# Altium footprint library Connector.PcbLib: 170 footprints (part 2 of 11)
Each footprint in its own frame and in the unit in brackets; x right, y up, seen from the top. Pads: shape width x height; smd on the part's side, far side on the other; paste and mask are expansions set on the pad; w line width, h text height; cw(c..) or ccw(c..) is an arc to the next point about the centre after c.
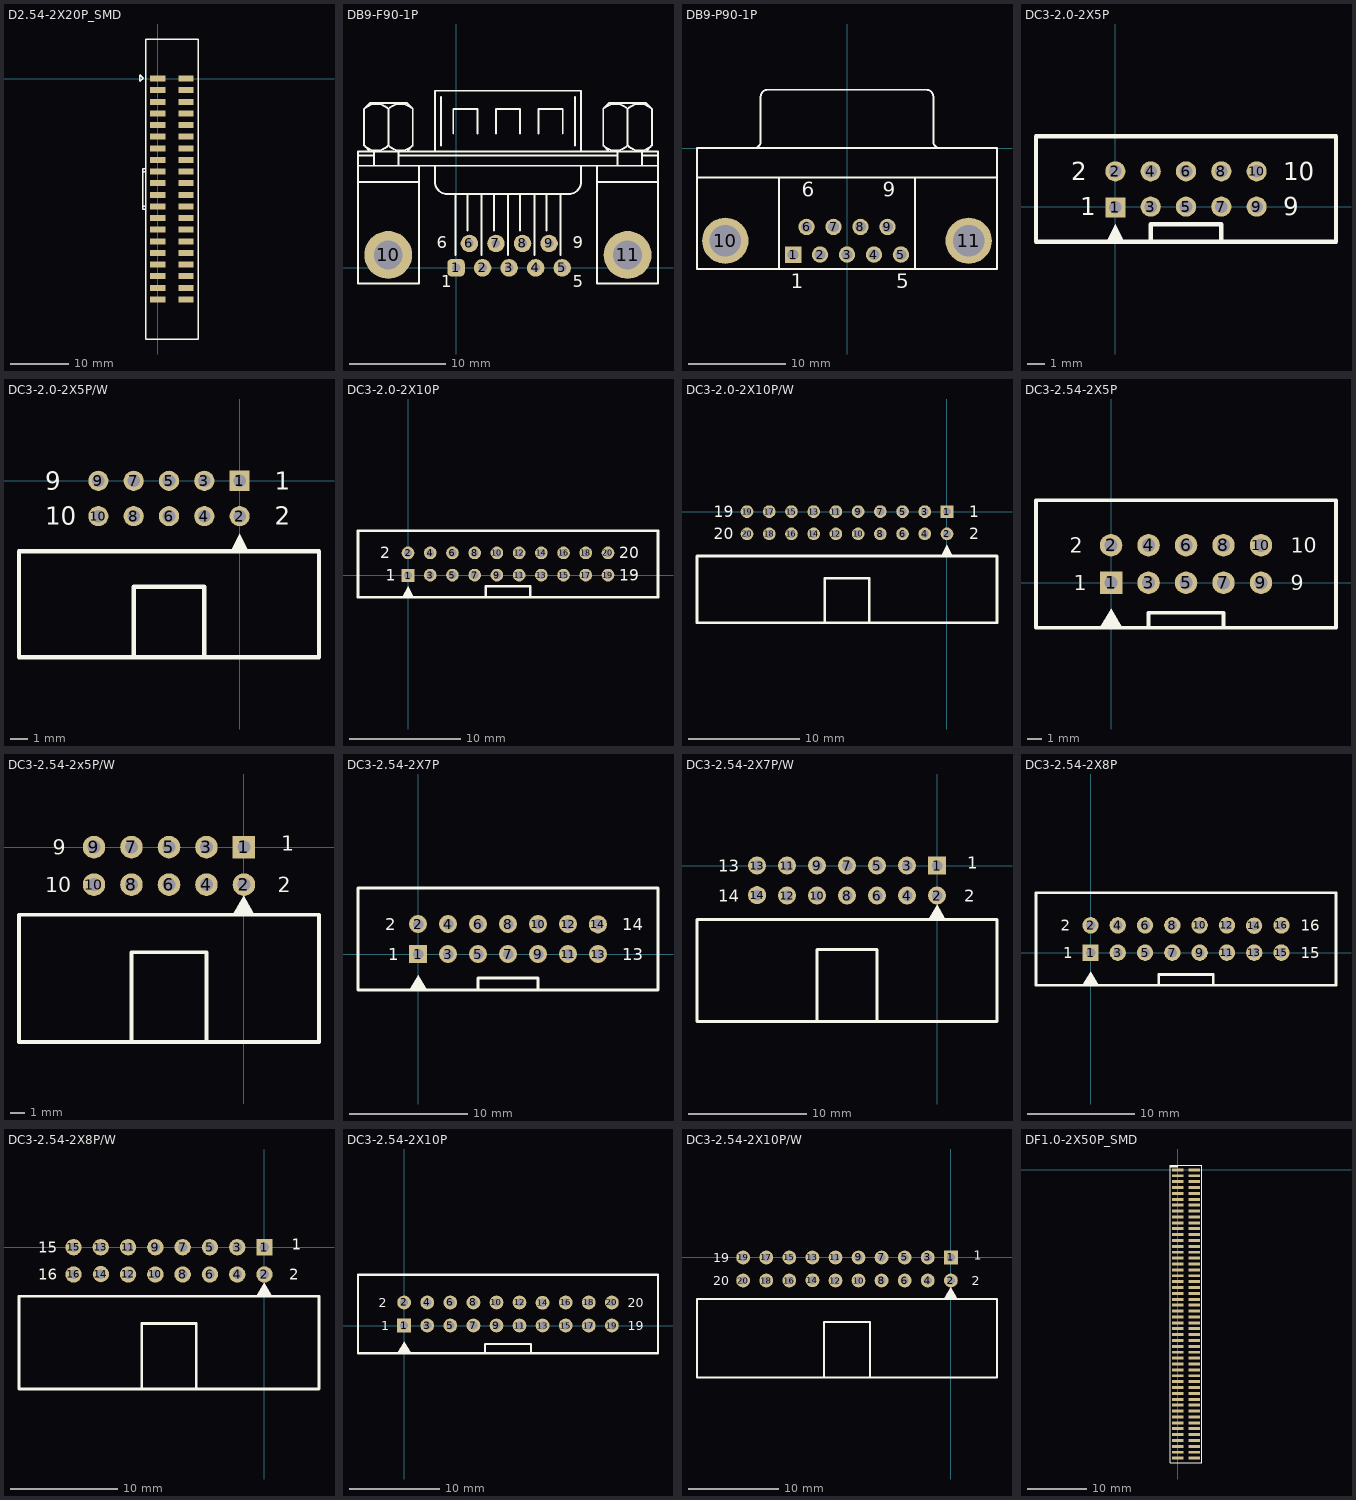
[diagram p1: the footprints below, top view; thin cyan lines are the x and y axes]

## D2.54-2X20P_SMD [mm]
pads (40):
  rect 2.65x1.02 smd: 1(0,0) 2(4.85,0) 3(0,-2) 4(4.85,-2) 5(0,-4) 6(4.85,-4) 7(0,-6) 8(4.85,-6) 9(0,-8) 10(4.85,-8) 11(0,-10) 12(4.85,-10) 13(0,-12) 14(4.85,-12) 15(0,-14) 16(4.85,-14) 17(0,-16) 18(4.85,-16) 19(0,-18) 20(4.85,-18) 21(0,-20) 22(4.85,-20) 23(0,-22) 24(4.85,-22) 25(0,-24) 26(4.85,-24) 27(0,-26) 28(4.85,-26) 29(0,-28) 30(4.85,-28) 31(0,-30) 32(4.85,-30) 33(0,-32) 34(4.85,-32) 35(0,-34) 36(4.85,-34) 37(0,-36) 38(4.85,-36) 39(0,-38) 40(4.85,-38)
Top Overlay:
  lines w0.254: -3.087,0.583 -3.087,-0.509 -2.528,0.05 -3.087,0.609 ; -2.106,-15.5 -2.575,-15.5 -2.575,-16 ; -2.08,-22.5 -2.575,-22.5 -2.575,-22 ; -2.078,-22 -2.575,-22 ; -2.078,-16 -2.575,-16 ; -2.575,-22 -2.575,-16 ; -2.075,-44.8 6.925,-44.8 6.925,6.8 -2.075,6.8 -2.075,-44.8
3D body: height 6, standoff 0, extent 4.238,-0.4 5.035,0.399
3D body: height 6, standoff 0, extent 4.213,-2.406 5.01,-1.608
3D body: height 6, standoff 0, extent 4.264,-4.413 5.06,-3.615
3D body: height 6, standoff 0, extent 4.264,-6.394 5.06,-5.596
3D body: height 6, standoff 0, extent 4.238,-8.426 5.035,-7.628
3D body: height 6, standoff 0, extent 4.264,-10.407 5.06,-9.609
3D body: height 6, standoff 0, extent 4.238,-12.414 5.035,-11.616
3D body: height 6, standoff 0, extent 4.238,-14.421 5.035,-13.622
3D body: height 6, standoff 0, extent 4.238,-16.427 5.035,-15.629
3D body: height 6, standoff 0, extent 4.238,-18.408 5.035,-17.61
3D body: height 6, standoff 0, extent 4.264,-20.415 5.06,-19.617
3D body: height 6, standoff 0, extent 4.238,-22.396 5.035,-21.598
3D body: height 6, standoff 0, extent 4.238,-24.403 5.035,-23.604
3D body: height 6, standoff 0, extent 4.238,-26.435 5.035,-25.636
3D body: height 6, standoff 0, extent 4.264,-28.416 5.06,-27.618
3D body: height 6, standoff 0, extent 4.238,-30.423 5.035,-29.624
3D body: height 6, standoff 0, extent 4.238,-32.404 5.035,-31.605
3D body: height 6, standoff 0, extent 4.238,-34.41 5.035,-33.612
3D body: height 6, standoff 0, extent 4.238,-36.417 5.035,-35.619
3D body: height 6, standoff 0, extent 4.238,-38.424 5.035,-37.625
3D body: height 6, standoff 0, extent -0.131,-38.398 0.666,-37.6
3D body: height 6, standoff 0, extent -0.131,-36.392 0.666,-35.593
3D body: height 6, standoff 0, extent -0.131,-34.385 0.666,-33.587
3D body: height 6, standoff 0, extent -0.131,-32.379 0.666,-31.58
3D body: height 6, standoff 0, extent -0.131,-30.397 0.666,-29.599
3D body: height 6, standoff 0, extent -0.105,-28.391 0.691,-27.592
3D body: height 6, standoff 0, extent -0.131,-26.41 0.666,-25.611
3D body: height 6, standoff 0, extent -0.131,-24.378 0.666,-23.579
3D body: height 6, standoff 0, extent -0.131,-22.371 0.666,-21.572
3D body: height 6, standoff 0, extent -0.105,-20.39 0.691,-19.591
3D body: height 6, standoff 0, extent -0.131,-18.383 0.666,-17.585
3D body: height 6, standoff 0, extent -0.131,-16.402 0.666,-15.603
3D body: height 6, standoff 0, extent -0.131,-14.395 0.666,-13.597
3D body: height 6, standoff 0, extent -0.131,-12.389 0.666,-11.59
3D body: height 6, standoff 0, extent -0.105,-10.382 0.691,-9.584
3D body: height 6, standoff 0, extent -0.131,-8.401 0.666,-7.602
3D body: height 6, standoff 0, extent -0.105,-6.369 0.691,-5.57
3D body: height 6, standoff 0, extent -0.105,-4.388 0.691,-3.589
3D body: height 6, standoff 0, extent -0.156,-2.381 0.641,-1.583
3D body: height 6, standoff 0, extent -0.131,-0.375 0.666,0.424
3D body: height 6, standoff 0, extent -2.706,-22.505 -1.995,-15.495
3D body: height 7, standoff 0, extent -2.706,-21.997 -1.995,-16.003
3D body: height 1, standoff 0, extent -1.995,-44.806 6.845,6.806
3D body: height 6, standoff 0, extent -1.995,-44.806 6.845,-44.222
3D body: height 6, standoff 0, extent -1.995,6.222 6.845,6.806
3D body: height 6, standoff 0, extent 6.286,-44.806 6.845,6.806
3D body: height 6, standoff 0, extent -1.995,-44.806 -1.436,6.806

## DB9-F90-1P [mil] "DSUB-DB9Lĸ"
pads (11):
  rrect50% 72x72 hole 35: 1(0,0)
  round 72 hole 35: 2(109.17,0) 3(218.33,0) 4(327.5,0) 5(436.67,0) 6(55,100) 7(164.17,100) 8(273.33,100) 9(382.5,100)
  round 196.67 hole 118.33: 10(-278.83,53) 11(705.33,53)
Top Overlay:
  lines w8: -403,353 -153,353 ; -403,419.67 830.33,419.67 ; -403,461.33 -336.33,461.33 ; -378.09,502.91 ccw(c-328,553) -277.91,502.91 ; -378.09,653.09 cw(c-328,603) -277.91,653.09 ; -353,478 -378,503 -378,653 -353,678 -203,678 -178,653 -178,503 -203,478 ; -336.33,419.67 -336.33,478 ; -278.09,502.91 ccw(c-228,553) -177.91,502.91 ; -278.09,653.09 cw(c-228,603) -177.91,653.09 ; -278,503 -278,653 ; -236.33,419.67 -236.33,478 ; -236.33,461.33 663.67,461.33 ; -153,419.67 -153,-63.67 -403,-63.67 -403,478 830.33,478 830.33,-63.67 580.33,-63.67 580.33,419.67 ; -86.33,419.67 -86.33,353 ccw(c-36.33,353) -36.33,303 463.67,303 ccw(c463.67,353) 513.67,353 513.67,419.67 ; -86.33,478 -86.33,728 513.67,728 513.67,478 ; -61.33,503 -61.33,703 ; -11.33,553 -11.33,653 88.67,653 88.67,553 ; -3,53 -3,303 ; 47,153 47,303 ; 105.33,53 105.33,303 ; 155.33,153 155.33,303 ; 163.67,553 163.67,653 263.67,653 263.67,553 ; 213.67,53 213.67,303 ; 263.67,153 263.67,303 ; 322,53 322,303 ; 338.67,553 338.67,653 438.67,653 438.67,553 ; 372,153 372,303 ; 430.33,53 430.33,303 ; 488.67,503 488.67,703 ; 580.33,353 830.33,353 ; 605.25,502.91 ccw(c655.33,553) 705.42,502.91 ; 605.25,653.09 cw(c655.33,603) 705.42,653.09 ; 630.33,478 605.33,503 605.33,653 630.33,678 780.33,678 805.33,653 805.33,503 780.33,478 ; 663.67,419.67 663.67,478 ; 705.25,502.91 ccw(c755.33,553) 805.42,502.91 ; 705.25,653.09 cw(c755.33,603) 805.42,653.09 ; 705.33,503 705.33,653 ; 763.67,419.67 763.67,478 ; 763.67,461.33 830.33,461.33
  text "6" at -80,80 h50
  text "5" at 480,-80 h50
  text "9" at 480,80 h50
  text "1" at -60,-80 h50

## DB9-P90-1P [mm] "DSUB-DB9L公"
pads (11):
  rect 1.69x1.69 hole 1.09: 1(-5.54,-10.92)
  round 1.69 hole 1.09: 2(-2.77,-10.92) 3(0,-10.92) 4(2.77,-10.92) 5(5.54,-10.92) 6(-4.155,-8.08) 7(-1.385,-8.08) 8(1.385,-8.08) 9(4.155,-8.08)
  round 4.76 hole 3.26: 10(-12.495,-9.5) 11(12.495,-9.5)
Top Overlay:
  lines w0.2: -15.4,-3 15.4,-3 ; -9.56,0.005 ccw(c-9.56,0.7) -8.865,0.7 -8.865,5.3 ; -8.86,5.305 cw(c-8.165,5.305) -8.165,6 8.165,6 cw(c8.165,5.305) 8.86,5.305 ; -7,-12.4 -7,-3 ; 7,-12.4 7,-3 ; 8.865,5.3 8.865,0.7 ccw(c9.56,0.7) 9.56,0.005 ; -15.4,-12.4 -15.4,0 15.4,0 15.4,-12.4 -15.4,-12.4
  text "1" at -5.79,-14.375 h1.5
  text "5" at 5.04,-14.375 h1.5
  text "9" at 3.655,-4.975 h1.5
  text "6" at -4.655,-4.975 h1.5

## DC3-2.0-2X5P [mil] "DC3-2.0-2X5P直脚"
pads (10):
  rect 45x45 hole 28: 1(0,-1.57)
  round 45 hole 28: 2(0,78.74) 3(78.74,0) 4(78.74,78.74) 5(157.48,0) 6(157.48,78.74) 7(236.22,0) 8(236.22,78.74) 9(314.96,0) 10(314.96,78.74)
Top Overlay:
  region: -19.68,-78.74 19.68,-78.74 0,-39.37
  lines w10: 78.74,-78.74 78.74,-39.37 236.22,-39.37 236.22,-78.74 ; -177.17,-78.74 -177.17,157.48 492.13,157.48 492.13,-78.74 -177.17,-78.74
  text "2" at -98.43,59.06 h40
  text "9" at 374.02,-19.68 h40
  text "1" at -78.74,-19.68 h40
  text "10" at 374.02,59.06 h40

## DC3-2.0-2X5P/W [mil] "DC3-2.0-2x5P弯脚"
pads (10):
  rect 45x45 hole 28: 1(0,0)
  round 45 hole 28: 2(0,-78.74) 3(-78.74,0) 4(-78.74,-78.74) 5(-157.48,0) 6(-157.48,-78.74) 7(-236.22,0) 8(-236.22,-78.74) 9(-314.96,0) 10(-314.96,-78.74)
Top Overlay:
  region: -19.68,-157.48 19.68,-157.48 0,-118.11
  lines w10: -236.22,-393.7 -236.22,-236.22 -78.74,-236.22 -78.74,-393.7 ; -492.13,-393.7 -492.13,-157.48 177.17,-157.48 177.17,-393.7 -492.13,-393.7
  text "9" at -433.07,-19.68 h40
  text "2" at 78.74,-98.43 h40
  text "1" at 78.74,-19.68 h40
  text "10" at -433.07,-98.43 h40

## DC3-2.0-2X10P [mil] "DC3-2.0-2x10P直脚"
pads (20):
  rect 45x45 hole 28: 1(0,-1.57)
  round 45 hole 28: 2(0,78.74) 3(78.74,0) 4(78.74,78.74) 5(157.48,0) 6(157.48,78.74) 7(236.22,0) 8(236.22,78.74) 9(314.96,0) 10(314.96,78.74) 11(393.7,0) 12(393.7,78.74) 13(472.44,0) 14(472.44,78.74) 15(551.18,0) 16(551.18,78.74) 17(629.92,0) 18(629.92,78.74) 19(708.66,0) 20(708.66,78.74)
Top Overlay:
  region: -19.68,-78.74 19.68,-78.74 0,-39.37
  lines w10: 275.59,-78.74 275.59,-39.37 433.07,-39.37 433.07,-78.74 ; -177.17,-78.74 -177.17,157.48 885.83,157.48 885.83,-78.74 -177.17,-78.74
  text "2" at -98.43,59.06 h40
  text "19" at 748.03,-19.68 h40
  text "1" at -78.74,-19.68 h40
  text "20" at 748.03,59.06 h40

## DC3-2.0-2X10P/W [mil] "DC3-2.0-2x10P弯脚"
pads (20):
  rect 45x45 hole 28: 1(0,0)
  round 45 hole 28: 2(0,-78.74) 3(-78.74,0) 4(-78.74,-78.74) 5(-157.48,0) 6(-157.48,-78.74) 7(-236.22,0) 8(-236.22,-78.74) 9(-314.96,0) 10(-314.96,-78.74) 11(-393.7,0) 12(-393.7,-78.74) 13(-472.44,0) 14(-472.44,-78.74) 15(-551.18,0) 16(-551.18,-78.74) 17(-629.92,0) 18(-629.92,-78.74) 19(-708.66,0) 20(-708.66,-78.74)
Top Overlay:
  region: -19.68,-157.48 19.68,-157.48 0,-118.11
  lines w10: -433.07,-393.7 -433.07,-236.22 -275.59,-236.22 -275.59,-393.7 ; -885.83,-393.7 177.17,-393.7 177.17,-157.48 -885.83,-157.48 -885.83,-393.7
  text "20" at -826.77,-98.43 h40
  text "1" at 78.74,-19.68 h40
  text "2" at 78.74,-98.43 h40
  text "19" at -826.77,-19.68 h40

## DC3-2.54-2X5P [mil] "DC3-2.54-2x5P直脚"
pads (10):
  rect 60x60 hole 35: 1(0,0)
  round 60 hole 35: 2(0,100) 3(100,0) 4(100,100) 5(200,0) 6(200,100) 7(300,0) 8(300,100) 9(400,0) 10(400,100)
Top Overlay:
  region: -30,-120 30,-120 0,-70
  lines w10: 100,-120 100,-80 300,-80 300,-120 ; -200,-120 -200,220 600,220 600,-120 -200,-120
  text "2" at -110,80 h40
  text "9" at 480,-20 h40
  text "1" at -100,-20 h40
  text "10" at 480,80 h40

## DC3-2.54-2x5P/W [mil] "DC3-2.54-2x5P弯脚"
pads (10):
  rect 60x60 hole 35: 1(0,0)
  round 60 hole 35: 2(0,-100) 3(-100,0) 4(-100,-100) 5(-200,0) 6(-200,-100) 7(-300,0) 8(-300,-100) 9(-400,0) 10(-400,-100)
Top Overlay:
  region: -30,-180 25,-175 0,-130
  lines w10: -300,-520 -300,-280 -100,-280 -100,-520 ; -600,-520 -600,-180 200,-180 200,-520 -600,-520
  text "9" at -510,-20 h40
  text "2" at 90,-120 h40
  text "1" at 100,-10 h40
  text "10" at -530,-120 h40

## DC3-2.54-2X7P [mil] "DC3-2.54-2x7P直脚"
pads (14):
  rect 60x60 hole 35: 1(0,0)
  round 60 hole 35: 2(0,100) 3(100,0) 4(100,100) 5(200,0) 6(200,100) 7(300,0) 8(300,100) 9(400,0) 10(400,100) 11(500,0) 12(500,100) 13(600,0) 14(599.75,98.75)
Top Overlay:
  region: -30,-120 30,-120 0,-70
  lines w10: 200,-120 200,-80 400,-80 400,-120 ; -200,-120 -200,220 800,220 800,-120 -200,-120
  text "2" at -110,80 h40
  text "13" at 680,-20 h40
  text "1" at -100,-20 h40
  text "14" at 680,80 h40

## DC3-2.54-2X7P/W [mil] "DC3-2.54-2x7P弯脚"
pads (14):
  rect 60x60 hole 35: 1(0,0)
  round 60 hole 35: 2(0,-100) 3(-100,0) 4(-100,-100) 5(-200,0) 6(-200,-100) 7(-300,0) 8(-300,-100) 9(-400,0) 10(-400,-100) 11(-500,0) 12(-500,-100) 13(-600,0) 14(-599.75,-98.75)
Top Overlay:
  region: -30,-180 25,-175 0,-130
  lines w10: -400,-520 -400,-280 -200,-280 -200,-520 ; -800,-520 200,-520 200,-180 -800,-180 -800,-520
  text "14" at -730,-120 h40
  text "1" at 100,-10 h40
  text "2" at 90,-120 h40
  text "13" at -730,-20 h40

## DC3-2.54-2X8P [mil] "DC3-2.54-2x8P直脚"
pads (16):
  rect 60x60 hole 35: 1(0,0)
  round 60 hole 35: 2(0,100) 3(100,0) 4(100,100) 5(200,0) 6(200,100) 7(300,0) 8(300,100) 9(400,0) 10(400,100) 11(500,0) 12(500,100) 13(600,0) 14(599.75,98.75) 15(700,0) 16(700,100)
Top Overlay:
  region: -30,-120 30,-120 0,-70
  lines w10: 250,-120 250,-80 450,-80 450,-120 ; -200,-120 -200,220 900,220 900,-120 -200,-120
  text "2" at -110,80 h40
  text "15" at 770,-20 h40
  text "1" at -100,-20 h40
  text "16" at 770,80 h40

## DC3-2.54-2X8P/W [mil] "DC3-2.54-2x8P弯脚"
pads (16):
  rect 60x60 hole 35: 1(0,0)
  round 60 hole 35: 2(0,-100) 3(-100,0) 4(-100,-100) 5(-200,0) 6(-200,-100) 7(-300,0) 8(-300,-100) 9(-400,0) 10(-400,-100) 11(-500,0) 12(-500,-100) 13(-600,0) 14(-599.75,-98.75) 15(-700,0) 16(-700,-100)
Top Overlay:
  region: -30,-180 25,-175 0,-130
  lines w10: -450,-520 -450,-280 -250,-280 -250,-520 ; -900,-520 -900,-180 200,-180 200,-520 -900,-520
  text "15" at -830,-20 h40
  text "2" at 90,-120 h40
  text "1" at 100,-10 h40
  text "16" at -830,-120 h40

## DC3-2.54-2X10P [mil] "DC3-2.54-2x10P直脚"
pads (20):
  rect 60x60 hole 35: 1(0,0)
  round 60 hole 35: 2(0,100) 3(100,0) 4(100,100) 5(200,0) 6(200,100) 7(300,0) 8(300,100) 9(400,0) 10(400,100) 11(500,0) 12(500,100) 13(600,0) 14(599.75,98.75) 15(700,0) 16(700,100) 17(800,0) 18(800,100) 19(900,0) 20(900,100)
Top Overlay:
  region: -30,-120 30,-120 0,-70
  lines w10: 350,-120 350,-80 550,-80 550,-120 ; -200,-120 -200,220 1100,220 1100,-120 -200,-120
  text "2" at -110,80 h40
  text "19" at 970,-20 h40
  text "1" at -100,-20 h40
  text "20" at 970,80 h40

## DC3-2.54-2X10P/W [mil] "DC3-2.54-2x10P弯脚"
pads (20):
  rect 60x60 hole 35: 1(0,0)
  round 60 hole 35: 2(0,-100) 3(-100,0) 4(-100,-100) 5(-200,0) 6(-200,-100) 7(-300,0) 8(-300,-100) 9(-400,0) 10(-400,-100) 11(-500,0) 12(-500,-100) 13(-600,0) 14(-599.75,-98.75) 15(-700,0) 16(-700,-100) 17(-800,0) 18(-800,-100) 19(-900,0) 20(-900,-100)
Top Overlay:
  region: -30,-180 25,-175 0,-130
  lines w10: -550,-520 -550,-280 -350,-280 -350,-520 ; -1100,-520 -1100,-180 200,-180 200,-520 -1100,-520
  text "19" at -1030,-20 h40
  text "2" at 90,-120 h40
  text "1" at 100,-10 h40
  text "20" at -1030,-120 h40

## DF1.0-2X50P_SMD [mm]
pads (100):
  rect 2x0.5 smd paste+0: 1(0,0) 2(2.8,0) 3(0,-1) 4(2.8,-1) 5(0,-2) 6(2.8,-2) 7(0,-3) 8(2.8,-3) 9(0,-4) 10(2.8,-4) 11(0,-5) 12(2.8,-5) 13(0,-6) 14(2.8,-6) 15(0,-7) 16(2.8,-7) 17(0,-8) 18(2.8,-8) 19(0,-9) 20(2.8,-9) 21(0,-10) 22(2.8,-10) 23(0,-11) 24(2.8,-11) 25(0,-12) 26(2.8,-12) 27(0,-13) 28(2.8,-13) 29(0,-14) 30(2.8,-14) 31(0,-15) 32(2.8,-15) 33(0,-16) 34(2.8,-16) 35(0,-17) 36(2.8,-17) 37(0,-18) 38(2.8,-18) 39(0,-19) 40(2.8,-19) 41(0,-20) 42(2.8,-20) 43(0,-21) 44(2.8,-21) 45(0,-22) 46(2.8,-22) 47(0,-23) 48(2.8,-23) 49(0,-24) 50(2.8,-24) 51(0,-25) 52(2.8,-25) 53(0,-26) 54(2.8,-26) 55(0,-27) 56(2.8,-27) 57(0,-28) 58(2.8,-28) 59(0,-29) 60(2.8,-29) 61(0,-30) 62(2.8,-30) 63(0,-31) 64(2.8,-31) 65(0,-32) 66(2.8,-32) 67(0,-33) 68(2.8,-33) 69(0,-34) 70(2.8,-34) 71(0,-35) 72(2.8,-35) 73(0,-36) 74(2.8,-36) 75(0,-37) 76(2.8,-37) 77(0,-38) 78(2.8,-38) 79(0,-39) 80(2.8,-39) 81(0,-40) 82(2.8,-40) 83(0,-41) 84(2.8,-41) 85(0,-42) 86(2.8,-42) 87(0,-43) 88(2.8,-43) 89(0,-44) 90(2.8,-44) 91(0,-45) 92(2.8,-45) 93(0,-46) 94(2.8,-46) 95(0,-47) 96(2.8,-47) 97(0,-48) 98(2.8,-48) 99(0,-49) 100(2.8,-49)
Top Overlay:
  rectangle: -1.27,0.381 0,0.762
  lines w0.203: -1.27,-49.784 -1.27,0.762 4.064,0.762 4.064,-49.784 -1.27,-49.784
Drill Drawing:
  circle w0.025: c1.4,-0.5 r0.3
  circle w0.025: c1.4,-48.5 r0.3